# EAGLE library part FSA2567MPX (library Particle)
Low power dual SIM card analog switch
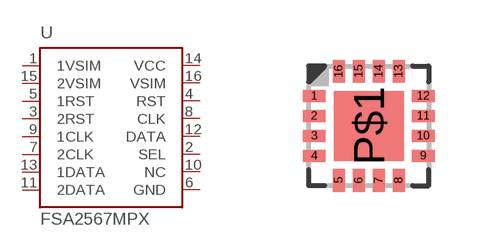
[diagram p35: symbol with the pads of MLP16; footprint MLP16]

Designator prefix U

## FSA2567MPXMLP  [MLP16]
1  1VSIM
2  SEL
3  2RST
4  RST
5  1RST
6  GND  pwr
7  2CLK
8  CLK
9  1CLK
10  NC  nc
11  2DATA
12  DATA
13  1DATA
14  VCC  pwr
15  2VSIM
16  VSIM

## Footprint MLP16 (pad centres in mm)
MLP16 footprint for FSA2567MPX SIM switch
smd 0.57 x 0.3: 1 -1.365,0.75; 2 -1.365,0.25; 3 -1.365,-0.25; 4 -1.365,-0.75; 9 1.365,-0.75; 10 1.365,-0.25; 11 1.365,0.25; 12 1.365,0.75
smd 0.3 x 0.57: 5 -0.75,-1.365; 6 -0.25,-1.365; 7 0.25,-1.365; 8 0.75,-1.365; 13 0.75,1.365; 14 0.25,1.365; 15 -0.25,1.365; 16 -0.75,1.365
smd 1.75 x 1.75: P$1 0,0